# EAGLE library part LM2955_PUSHBUTTON_IC (library Taylor)
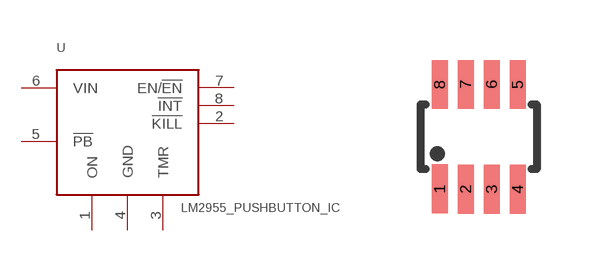
[diagram p38: symbol with the pads of SOT23-8; footprint SOT23-8]

Designator prefix -

## LM2955_PUSHBUTTON_IC  [SOT23-8]
1  ON
2  !KILL!
3  TMR
4  GND
5  !PB!
6  VIN
7  EN/!EN!
8  !INT!

## Footprint SOT23-8 (pad centres in mm)
smd 0.4 x 1.22: 1 -0.975,-1.3; 2 -0.325,-1.31; 3 0.325,-1.31; 4 0.975,-1.31; 5 0.975,1.31; 6 0.325,1.31; 7 -0.325,1.31; 8 -0.975,1.31